# Altium schematic symbol library DIODE_ZENER.Schlib: 1 symbol
Pins are listed as number, name and electrical type; pins without a type are passive.

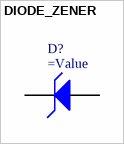
[diagram p0: symbol DIODE_ZENER]

## DIODE_ZENER
designator D?
Zener Diode
pins: 1 K, 2 A